# Altium footprint library Chips.PcbLib: 3 footprints
Each footprint in its own frame and in the unit in brackets; x right, y up, seen from the top. Pads: shape width x height; smd on the part's side, far side on the other; paste and mask are expansions set on the pad; w line width, h text height; cw(c..) or ccw(c..) is an arc to the next point about the centre after c.
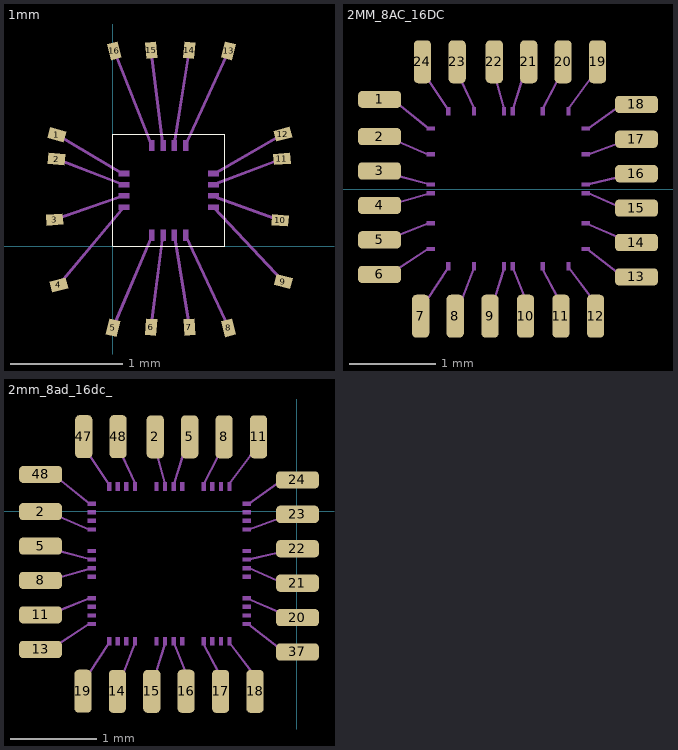
[diagram p0: the footprints below, top view; thin cyan lines are the x and y axes]

## 1mm [mm]
pads (32):
  rect 0.15x0.1 smd rot 164.92 mask-2539.97: 1(-0.496,0.995)
  rect 0.1x0.05 on Mech33 mask+0.102: 1(0.1,0.65) 2(0.1,0.55) 3(0.1,0.45) 4(0.1,0.35) 9(0.9,0.35) 10(0.9,0.45) 11(0.9,0.55) 12(0.9,0.65)
  rect 0.15x0.1 smd rot 174.78 mask-2539.97: 2(-0.5,0.779)
  rect 0.15x0.1 smd rot 4.63 mask-2539.97: 3(-0.517,0.24)
  rect 0.15x0.1 smd rot 14.13 mask-2539.97: 4(-0.48,-0.344)
  rect 0.15x0.1 smd rot 76.12 mask-2539.97: 5(0.003,-0.725)
  rect 0.05x0.1 on Mech33 mask+0.102: 5(0.35,0.1) 6(0.45,0.1) 7(0.55,0.1) 8(0.65,0.1) 13(0.65,0.9) 14(0.55,0.9) 15(0.45,0.9) 16(0.35,0.9)
  rect 0.15x0.1 smd rot 85.75 mask-2539.97: 6(0.342,-0.719)
  rect 0.15x0.1 smd rot 94.23 mask-2539.97: 7(0.685,-0.719)
  rect 0.15x0.1 smd rot 104.34 mask-2539.97: 8(1.034,-0.725)
  rect 0.15x0.1 smd rot 166.23 mask-2539.97: 9(1.521,-0.313)
  rect 0.15x0.1 smd rot 175.83 mask-2539.97: 10(1.493,0.232)
  rect 0.15x0.1 smd rot 4.15 mask-2539.97: 11(1.509,0.781)
  rect 0.15x0.1 smd rot 14.53 mask-2539.97: 12(1.516,1.001)
  rect 0.15x0.1 smd rot 75.7 mask-2539.97: 13(1.034,1.743)
  rect 0.15x0.1 smd rot 84.63 mask-2539.97: 14(0.683,1.749)
  rect 0.15x0.1 smd rot 94.92 mask-2539.97: 15(0.343,1.749)
  rect 0.15x0.1 smd rot 104.3 mask-2539.97: 16(0.014,1.743)
Top Overlay:
  lines w0.01: 0,0 1,0 1,1 0,1 0,0
Top Solder:
  drawing of 16 lines, arcs and shapes, not listed
Top Wire Bonding (Mech35):
  lines w0.025: -0.517,0.24 0.094,0.451 ; -0.5,0.779 0.096,0.55 ; -0.496,0.995 0.096,0.644 ; -0.48,-0.344 0.096,0.349 ; 0.003,-0.725 0.352,0.1 ; 0.014,1.743 0.349,0.896 ; 0.342,-0.719 0.446,0.093 ; 0.343,1.749 0.448,0.89 ; 0.547,0.896 0.683,1.749 ; 0.551,0.098 0.685,-0.719 ; 0.647,0.896 1.034,1.743 ; 0.652,0.095 1.034,-0.725 ; 0.899,0.644 1.516,1.001 ; 0.901,0.347 1.521,-0.313 ; 0.901,0.446 1.493,0.232 ; 0.901,0.552 1.509,0.781
3D body: height 0.05, standoff 0, extent 0,-0.001 1,1.001

## 2MM_8AC_16DC [mm]
pads (48):
  rrect50% 0.5x0.2 smd mask+0.05: 1(-4.528,1.046) 2(-4.53,0.614) 3(-4.53,0.214) 4(-4.53,-0.186) 5(-4.53,-0.586) 6(-4.53,-0.989) 13(-1.543,-1.018) 14(-1.543,-0.618) 15(-1.543,-0.218) 16(-1.543,0.182) 17(-1.543,0.583) 18(-1.543,0.988)
  rect 0.1x0.05 on Mech33 mask+0.102: 1(-3.935,0.706) 2(-3.933,0.406) 3(-3.933,0.056) 4(-3.933,-0.044) 5(-3.933,-0.394) 6(-3.933,-0.694) 13(-2.133,-0.694) 14(-2.133,-0.394) 15(-2.133,-0.044) 16(-2.133,0.056) 17(-2.133,0.406) 18(-2.133,0.706)
  rrect50% 0.2x0.5 smd mask+0.05: 7(-4.052,-1.475) 8(-3.651,-1.475) 9(-3.246,-1.475) 10(-2.832,-1.475) 11(-2.421,-1.475) 12(-2.019,-1.475) 19(-1.996,1.483) 20(-2.396,1.483) 21(-2.796,1.483) 22(-3.196,1.483) 23(-3.628,1.483) 24(-4.032,1.483)
  rect 0.05x0.1 on Mech33 mask+0.102: 7(-3.733,-0.894) 8(-3.433,-0.894) 9(-3.083,-0.894) 10(-2.983,-0.894) 11(-2.633,-0.894) 12(-2.333,-0.894) 19(-2.333,0.906) 20(-2.633,0.906) 21(-2.983,0.906) 22(-3.083,0.906) 23(-3.433,0.906) 24(-3.733,0.906)
Top Solder:
  lines w0.05: -4.083,-1.044 -1.983,-1.044 -1.983,1.056 -4.083,1.056 -4.083,-1.044
Top Wire Bonding (Mech35):
  lines w0.025: -4.314,0.991 -3.967,0.714 ; -4.31,-0.918 -3.966,-0.692 ; -4.306,-0.533 -3.966,-0.397 ; -4.305,0.551 -3.966,0.407 ; -4.304,0.153 -3.941,0.055 ; -4.293,-0.146 -3.935,-0.044 ; -3.973,-1.276 -3.739,-0.922 ; -3.96,1.27 -3.738,0.939 ; -3.584,1.268 -3.425,0.934 ; -3.563,-1.263 -3.432,-0.914 ; -3.187,-1.255 -3.081,-0.915 ; -3.171,1.253 -3.084,0.938 ; -2.98,-0.913 -2.849,-1.235 ; -2.977,0.936 -2.877,1.262 ; -2.636,-0.925 -2.456,-1.266 ; -2.632,0.941 -2.465,1.254 ; -2.33,0.941 -2.092,1.266 ; -2.325,-0.92 -2.07,-1.252 ; -2.113,-0.402 -1.761,-0.554 ; -2.11,-0.7 -1.77,-0.959 ; -2.107,-0.041 -1.779,-0.187 ; -2.104,0.404 -1.758,0.535 ; -2.104,0.708 -1.776,0.941 ; -2.1,0.06 -1.76,0.14
3D body: height 0.5, standoff 0, extent -4.033,-0.994 -2.033,1.01

## 2mm_8ad_16dc_ [mm]
pads (72):
  rect 0.1x0.05 on Mech33 mask+0.102: 1(-2.385,0.086) 2(-2.383,-0.014) 3(-2.383,-0.114) 4(-2.383,-0.214) 5(-2.383,-0.464) 6(-2.383,-0.564) 7(-2.383,-0.664) 8(-2.383,-0.764) 9(-2.383,-1.014) 10(-2.383,-1.114) 11(-2.383,-1.214) 12(-2.383,-1.314) 25(-0.583,-1.314) 26(-0.583,-1.214) 27(-0.583,-1.114) 28(-0.583,-1.014) 29(-0.583,-0.764) 30(-0.583,-0.664) 31(-0.583,-0.564) 32(-0.583,-0.464) 33(-0.583,-0.214) 34(-0.583,-0.114) 35(-0.583,-0.014) 36(-0.583,0.086)
  rrect50% 0.5x0.2 smd mask+0.05: 2(-2.98,-0.006) 5(-2.98,-0.406) 8(-2.98,-0.806) 11(-2.98,-1.206) 13(-2.98,-1.609) 20(0.007,-1.238) 21(0.007,-0.838) 22(0.007,-0.438) 23(0.007,-0.037) 24(0.007,0.362) 37(0.007,-1.638) 48(-2.978,0.426)
  rrect50% 0.2x0.5 smd mask+0.05: 2(-1.646,0.863) 5(-1.246,0.863) 8(-0.846,0.863) 11(-0.446,0.863) 14(-2.087,-2.095) 15(-1.687,-2.095) 16(-1.288,-2.094) 17(-0.887,-2.095) 18(-0.487,-2.095) 19(-2.486,-2.094) 47(-2.478,0.865) 48(-2.078,0.865)
  rect 0.05x0.1 on Mech33 mask+0.102: 13(-2.183,-1.514) 14(-2.083,-1.514) 15(-1.983,-1.514) 16(-1.883,-1.514) 17(-1.633,-1.514) 18(-1.533,-1.514) 19(-1.433,-1.514) 20(-1.333,-1.514) 21(-1.083,-1.514) 22(-0.983,-1.514) 23(-0.883,-1.514) 24(-0.783,-1.514) 37(-0.783,0.286) 38(-0.883,0.286) 39(-0.983,0.286) 40(-1.083,0.286) 41(-1.333,0.286) 42(-1.433,0.286) 43(-1.533,0.286) 44(-1.633,0.286) 45(-1.883,0.286) 46(-1.983,0.286) 47(-2.083,0.286) 48(-2.183,0.286)
Top Solder:
  lines w0.05: -2.533,-1.664 -0.433,-1.664 -0.433,0.436 -2.533,0.436 -2.533,-1.664
Top Wire Bonding (Mech35):
  lines w0.025: -2.764,0.371 -2.417,0.094 ; -2.76,-1.538 -2.416,-1.312 ; -2.756,-1.153 -2.416,-1.017 ; -2.754,-0.467 -2.391,-0.565 ; -2.755,-0.069 -2.416,-0.213 ; -2.743,-0.766 -2.385,-0.664 ; -2.412,-1.879 -2.189,-1.542 ; -2.41,0.65 -2.188,0.319 ; -2.034,0.648 -1.875,0.314 ; -2.013,-1.883 -1.882,-1.534 ; -1.637,-1.875 -1.531,-1.535 ; -1.621,0.633 -1.534,0.318 ; -1.43,-1.533 -1.299,-1.855 ; -1.427,0.316 -1.327,0.642 ; -1.086,-1.545 -0.906,-1.886 ; -1.082,0.321 -0.915,0.634 ; -0.78,0.321 -0.542,0.646 ; -0.775,-1.54 -0.52,-1.872 ; -0.563,-1.022 -0.211,-1.174 ; -0.56,-1.32 -0.22,-1.579 ; -0.557,-0.661 -0.229,-0.807 ; -0.554,-0.216 -0.208,-0.085 ; -0.554,0.088 -0.226,0.321 ; -0.55,-0.56 -0.21,-0.48
3D body: height 0.5, standoff 0, extent -2.483,-1.614 -0.483,0.39